# Altium schematic symbol library SiT8xxx.SchLib: 1 symbol
Pins are listed as number, name and electrical type; pins without a type are passive.

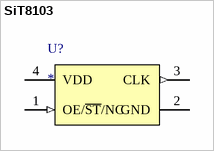
[diagram p0: symbol SiT8103]

## SiT8103
designator U?
pins: 1 OE/~{ST}/NC (in), 2 GND (power), 3 CLK (out), 4 VDD (power)